# EAGLE library part MCP9808T-E/MS (library MCP9808T)
Board Mount Temperature Sensors Silicon temp sensor with I2C interface
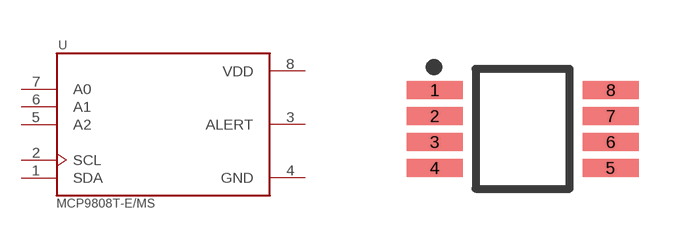
[diagram p0: symbol with the pads of SOP65P490X110-8N; footprint SOP65P490X110-8N]

Designator prefix U

## MCP9808T-E/MS (DESCRIPTION: Temperature Sensor Digital, Local -40°C ~ 125°C 10 b 8-MSOP; DIGI-KEY_PART_NUMBER: MCP9808T-E/MSCT-ND; MF: Microchip; MP: MCP9808T-E/MS; PACKAGE: MSOP-8 Microchip)  [SOP65P490X110-8N]
1  SDA
2  SCL  in
3  ALERT  out
4  GND  pwr
5  A2  in
6  A1  in
7  A0  in
8  VDD  pwr

## Footprint SOP65P490X110-8N (pad centres in mm)
smd 1.4 x 0.45: 1 -2.2,0.975; 2 -2.2,0.325; 3 -2.2,-0.325; 4 -2.2,-0.975; 5 2.2,-0.975; 6 2.2,-0.325; 7 2.2,0.325; 8 2.2,0.975